# Altium schematic symbol library 555_timer.SCHLIB: 6 symbols
Pins are listed as number, name and electrical type; pins without a type are passive.

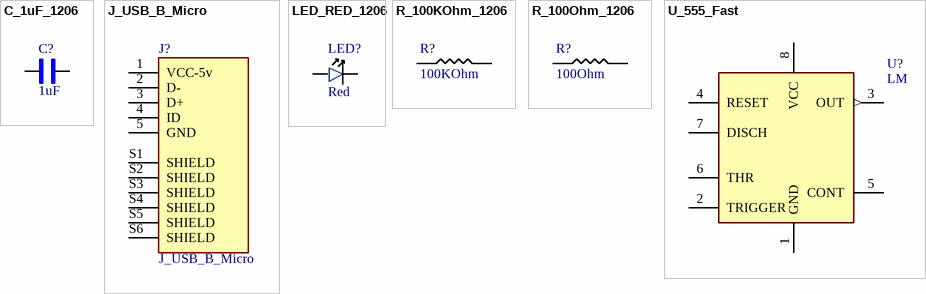
[diagram p0: symbols C_1uF_1206 to U_555_Fast]

## C_1uF_1206
designator C?, comment 1uF
MULTILAYER CERAMIC CAPACITORS MLCC - SMD/SMT 1UF 50V 1206 ROHS; MFR Part #: CL31B105KBHNNNE; Type: Basic; Digikey Link: https://www.digikey.com/product-detail/en/C1206C105M4RACTU/399-8150-1-ND/3471873/?itemSeq=304982366; LCSC Part#: C1848; Value: 1uF
footprint 1206_Passive_Capacitor
pins: 1, 2

## J_USB_B_Micro
designator J?
Micro Usb, 2.0 Type b, Rcpt, Smt; MFR: Amphenol ICC; MFR Part #: 10118194-0001LF; Digikey link: https://www.digikey.com/en/products/detail/amphenol-cs-fci/10118194-0001LF/2785389?s=N4IgTCBcDaIAQEYAMCEA4EE4AsBaJBCAMgGJwgC6AvkA; DataSheet: https://www.amphenol-cs.com/media/wysiwyg/files/drawing/10118194.pdf; LCSC Part#: C132563; Type: Extended
footprint AMPHENOL_10118194-0001LF
pins: 1 VCC-5v (power), 2 D-, 3 D+, 4 ID, 5 GND, S1 SHIELD, S2 SHIELD, S3 SHIELD, S4 SHIELD, S5 SHIELD, S6 SHIELD

## LED_RED_1206
designator LED?, comment Red
Red 621~631nm 1206 Light Emitting Diodes (LED) RoHS; MFR Part #: 15-21/R6C-FQ1R1B/2T; Type: Extended; LCSC Part#: C93133; Datasheet: https://datasheet.lcsc.com/szlcsc/1811151241_Everlight-Elec-15-21-R6C-FQ1R1B-2T_C93133.pdf; Value: Red
footprint LED_1206
pins: 1, 2

## R_100KOhm_1206
designator R?, comment 100KOhm
100kΩ ±1% 0.25W ±100ppm/℃ 1206 Chip Resistor - Surface Mount RoHS; MFR Part #: 1206W4F1003T5E; LCSC Part#: C17900; Datasheet: https://datasheet.lcsc.com/lcsc/1810301421_UNI-ROYAL-Uniroyal-Elec-1206W4F1003T5E_C17900.pdf; Type: Basic; Value: 100KOhm
footprint 1206_Passive_Resitor
pins: 1, 2

## R_100Ohm_1206
designator R?, comment 100Ohm
100Ω ±1% 0.25W ±100ppm/℃ 1206 Chip Resistor - Surface Mount RoHS; MFR Part #: 1206W4F1000T5E; LCSC Part#: C17901; Datasheet: https://datasheet.lcsc.com/lcsc/2206010145_UNI-ROYAL-Uniroyal-Elec-1206W4F1000T5E_C17901.pdf; Type: Basic; Value: 100Ohm
footprint 1206_Passive_Resitor
pins: 1, 2

## U_555_Fast
designator U?, comment LM
555 Type, Timer/Oscillator _Single_ IC 3MHz 8-SO; MFR Part #: LMC555CMX/NOPB; Package: SOIC-8; DigiKey link: https://www.digikey.com/product-detail/en/texas-instruments/LMC555CMX-NOPB/LMC555CMX-NOPBCT-ND/1010550; LCSC Part#: C90760; Type: Extended
footprint TS555IDTTR (IC OSC Single Timer 2.7MHz 8SOIC)
pins: 1 GND (power), 2 TRIGGER, 3 OUT (out), 4 RESET, 5 CONT, 6 THR, 7 DISCH, 8 VCC (power)